# Altium schematic symbol library analog.SchLib: 4 symbols
Pins are listed as number, name and electrical type; pins without a type are passive.

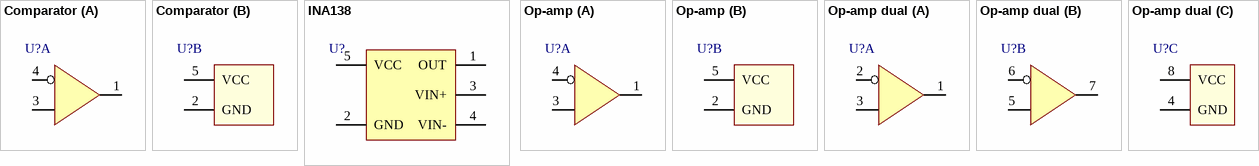
[diagram p0: symbols Comparator to Op-amp dual]

## Comparator
designator U?
Single comparator
part A pins: 1 OUT, 3 INP, 4 INN
part B pins: 2 GND (power), 5 VCC (power)

## INA138
designator U?
Current Monitor
footprint SOT23-5
pins: 1 OUT "Positive Power Supply.", 2 GND "Positive Power Supply.", 3 VIN+ "Positive Power Supply.", 4 VIN- "Positive Power Supply.", 5 VCC "Positive Power Supply."

## Op-amp
designator U?
Single operational amplifier
part A pins: 1 OUT, 3 IN+, 4 IN-
part B pins: 2 GND (power), 5 VCC (power)

## Op-amp dual
designator U?
Dual operation amplifier
footprint SO8_1.27
part A pins: 1 OUT, 2, 3
part B pins: 5, 6, 7 OUT
part C pins: 4 GND (power), 8 VCC (power)